# Altium footprint library MIC4127YMME-TR.PcbLib: 3 footprints
Each footprint in its own frame and in the unit in brackets; x right, y up, seen from the top. Pads: shape width x height; smd on the part's side, far side on the other; paste and mask are expansions set on the pad; w line width, h text height; cw(c..) or ccw(c..) is an arc to the next point about the centre after c.
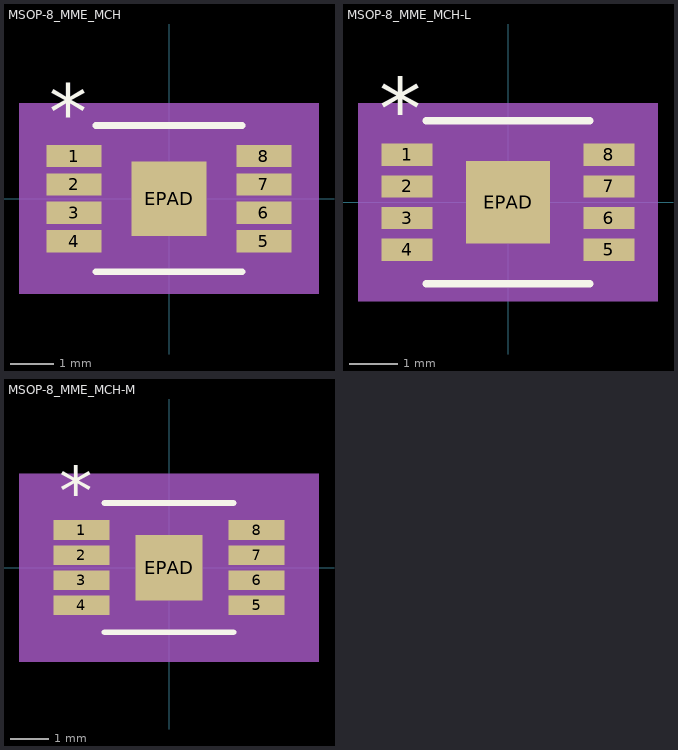
[diagram p0: the footprints below, top view; thin cyan lines are the x and y axes]

## MSOP-8_MME_MCH [mm]
pads (9):
  rect 1.252x0.507 smd paste+0 mask+0: 1(-2.175,0.975) 2(-2.175,0.325) 3(-2.175,-0.325) 4(-2.175,-0.975) 5(2.175,-0.975) 6(2.175,-0.325) 7(2.175,0.325) 8(2.175,0.975)
  rect 1.727x1.702 smd paste+0 mask+0: EPAD(0,0)
Top Overlay:
  lines w0.152: -1.676,-1.676 1.676,-1.676 ; -1.676,1.676 1.676,1.676
  text "*" at -2.747,1.355 h1.27
Mechanical 5:
  region: 3.436,-2.184 -3.436,-2.184 -3.436,2.184 3.436,2.184
Mechanical 13:
  lines w0: -0.305,1.549 ccw(c0,1.549) 0.305,1.549
  lines w0.025: -2.451,-1.204 -2.451,-0.746 -1.549,-0.746 -1.549,-1.204 -2.451,-1.204 ; -2.451,-0.554 -2.451,-0.096 -1.549,-0.096 -1.549,-0.554 -2.451,-0.554 ; -2.451,0.096 -2.451,0.554 -1.549,0.554 -1.549,0.096 -2.451,0.096 ; -2.451,0.746 -2.451,1.204 -1.549,1.204 -1.549,0.746 -2.451,0.746 ; -1.549,-1.549 1.549,-1.549 1.549,1.549 -1.549,1.549 -1.549,-1.549 ; 1.549,-1.204 1.549,-0.746 2.451,-0.746 2.451,-1.204 1.549,-1.204 ; 1.549,-0.554 1.549,-0.096 2.451,-0.096 2.451,-0.554 1.549,-0.554 ; 1.549,0.096 1.549,0.554 2.451,0.554 2.451,0.096 1.549,0.096 ; 1.549,0.746 1.549,1.204 2.451,1.204 2.451,0.746 1.549,0.746
  text "*" at -1.486,0.203 h1.27
Mechanical 15:
  region: -1.803,-1.483 -3.055,-1.483 -3.055,1.483 -1.803,1.483 -1.803,1.803 1.803,1.803 1.803,1.483 3.055,1.483 3.055,-1.483 1.803,-1.483 1.803,-1.803 -1.803,-1.803
  lines w0.152: -3.055,-1.483 -3.055,1.483 -1.803,1.483 -1.803,1.803 1.803,1.803 1.803,1.483 3.055,1.483 3.055,-1.483 1.803,-1.483 1.803,-1.803 -1.803,-1.803 -1.803,-1.483 -3.055,-1.483
3D body "MSOP-8_MME_MCH.step": height 1.09, standoff 0, extent -2.451,-1.549 2.451,1.549

## MSOP-8_MME_MCH-L [mil]
pads (9):
  rect 41.41x18 smd paste+0 mask+0: 1(-81.7,38.39) 2(-81.7,12.8) 3(-81.7,-12.8) 4(-81.7,-38.39) 5(81.7,-38.39) 6(81.7,-12.8) 7(81.7,12.8) 8(81.7,38.39)
  rect 68x67 smd paste+0 mask+0: EPAD(0,0)
Top Overlay:
  lines w6: -66,-66 66,-66 ; -66,66 66,66
  text "*" at -104.2,51.39 h50
Mechanical 5:
  region: 121.41,-80 -121.41,-80 -121.41,80 121.41,80
Mechanical 13:
  lines w0: -12,61 ccw(c0,61) 12,61
  lines w1: -96.5,-47.39 -96.5,-29.39 -61,-29.39 -61,-47.39 -96.5,-47.39 ; -96.5,-21.8 -96.5,-3.8 -61,-3.8 -61,-21.8 -96.5,-21.8 ; -96.5,3.8 -96.5,21.8 -61,21.8 -61,3.8 -96.5,3.8 ; -96.5,29.39 -96.5,47.39 -61,47.39 -61,29.39 -96.5,29.39 ; -61,-61 61,-61 61,61 -61,61 -61,-61 ; 61,-47.39 61,-29.39 96.5,-29.39 96.5,-47.39 61,-47.39 ; 61,-21.8 61,-3.8 96.5,-3.8 96.5,-21.8 61,-21.8 ; 61,3.8 61,21.8 96.5,21.8 96.5,3.8 61,3.8 ; 61,29.39 61,47.39 96.5,47.39 96.5,29.39 61,29.39
  text "*" at -58.5,8 h50
Mechanical 15:
  region: -65,-51.39 -106.41,-51.39 -106.41,51.39 -65,51.39 -65,65 65,65 65,51.39 106.41,51.39 106.41,-51.39 65,-51.39 65,-65 -65,-65
  lines w6: -106.41,-51.39 -106.41,51.39 -65,51.39 -65,65 65,65 65,51.39 106.41,51.39 106.41,-51.39 65,-51.39 65,-65 -65,-65 -65,-51.39 -106.41,-51.39
3D body "MSOP-8_MME_MCH.step": height 43.11, standoff 0, extent -96.5,-60.98 96.5,60.98

## MSOP-8_MME_MCH-M [mm]
pads (9):
  rect 1.452x0.507 smd paste+0 mask+0: 1(-2.275,0.975) 2(-2.275,0.325) 3(-2.275,-0.325) 4(-2.275,-0.975) 5(2.275,-0.975) 6(2.275,-0.325) 7(2.275,0.325) 8(2.275,0.975)
  rect 1.727x1.702 smd paste+0 mask+0: EPAD(0,0)
Top Overlay:
  lines w0.152: -1.676,-1.676 1.676,-1.676 ; -1.676,1.676 1.676,1.676
  text "*" at -2.847,1.355 h1.27
Mechanical 5:
  region: 3.89,-2.438 -3.89,-2.438 -3.89,2.438 3.89,2.438
Mechanical 13:
  lines w0: -0.305,1.549 ccw(c0,1.549) 0.305,1.549
  lines w0.025: -2.451,-1.204 -2.451,-0.746 -1.549,-0.746 -1.549,-1.204 -2.451,-1.204 ; -2.451,-0.554 -2.451,-0.096 -1.549,-0.096 -1.549,-0.554 -2.451,-0.554 ; -2.451,0.096 -2.451,0.554 -1.549,0.554 -1.549,0.096 -2.451,0.096 ; -2.451,0.746 -2.451,1.204 -1.549,1.204 -1.549,0.746 -2.451,0.746 ; -1.549,-1.549 1.549,-1.549 1.549,1.549 -1.549,1.549 -1.549,-1.549 ; 1.549,-1.204 1.549,-0.746 2.451,-0.746 2.451,-1.204 1.549,-1.204 ; 1.549,-0.554 1.549,-0.096 2.451,-0.096 2.451,-0.554 1.549,-0.554 ; 1.549,0.096 1.549,0.554 2.451,0.554 2.451,0.096 1.549,0.096 ; 1.549,0.746 1.549,1.204 2.451,1.204 2.451,0.746 1.549,0.746
  text "*" at -1.486,0.203 h1.27
Mechanical 15:
  region: -2.057,-1.737 -3.509,-1.737 -3.509,1.737 -2.057,1.737 -2.057,2.057 2.057,2.057 2.057,1.737 3.509,1.737 3.509,-1.737 2.057,-1.737 2.057,-2.057 -2.057,-2.057
  lines w0.152: -3.509,-1.737 -3.509,1.737 -2.057,1.737 -2.057,2.057 2.057,2.057 2.057,1.737 3.509,1.737 3.509,-1.737 2.057,-1.737 2.057,-2.057 -2.057,-2.057 -2.057,-1.737 -3.509,-1.737
3D body "MSOP-8_MME_MCH.step": height 1.09, standoff 0, extent -2.451,-1.549 2.451,1.549